# Altium footprint library STMICRO_SOT23-5L.PcbLib: 1 footprints
Each footprint in its own frame and in the unit in brackets; x right, y up, seen from the top. Pads: shape width x height; smd on the part's side, far side on the other; paste and mask are expansions set on the pad; w line width, h text height; cw(c..) or ccw(c..) is an arc to the next point about the centre after c.
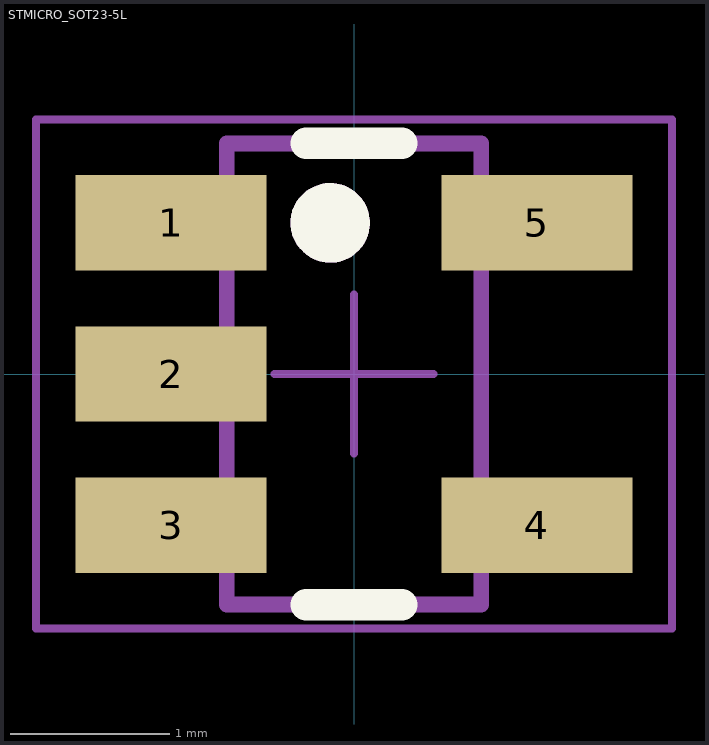
[diagram p0: the footprint, top view; thin cyan lines are the x and y axes]

## STMICRO_SOT23-5L [mm] "STMICRO_SOT23-5L"
height 1.45
pads (5):
  rect 1.2x0.6 smd mask+0.07: 1(-1.15,0.95) 2(-1.15,0) 3(-1.15,-0.95) 4(1.15,-0.95) 5(1.15,0.95)
Top Overlay:
  circle w0.3: c-0.15,0.95 r0.1
  lines w0.2: -0.3,-1.45 0.3,-1.45 ; -0.3,1.45 0.3,1.45
Mechanical 13:
  circle w0.3: c-0.15,0.95 r0.1
  lines w0.1: -0.8,-1.45 -0.8,1.45 0.8,1.45 0.8,-1.45 -0.8,-1.45
Mechanical 15:
  lines w0.05: -0.5,0 0.5,0 ; 0,-0.5 0,0.5 ; -2,-1.6 -2,1.6 2,1.6 2,-1.6 -2,-1.6
3D body "STMICRO_SOT23-5L.step": height 1.25, standoff 0, extent -1.499,-1.511 1.499,1.511